# Altium footprint library Indutor.PcbLib: 2 footprints
Each footprint in its own frame and in the unit in brackets; x right, y up, seen from the top. Pads: shape width x height; smd on the part's side, far side on the other; paste and mask are expansions set on the pad; w line width, h text height; cw(c..) or ccw(c..) is an arc to the next point about the centre after c.
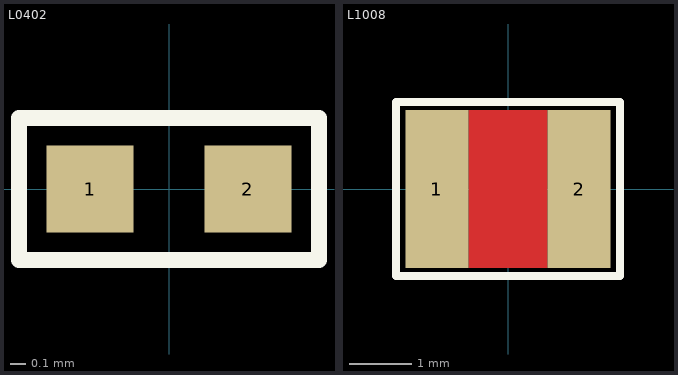
[diagram p0: the footprints below, top view; thin cyan lines are the x and y axes]

## L0402 [mil]
pads (2):
  rect 22x22 smd: 1(-20,0) 2(20,0)
Top Overlay:
  lines w4: -38,-18 38,-18 38,18 -38,18 -38,-18
3D body "User Library-Chip Inductor.step": height 19.68, standoff 0, extent -20,-11.62 19.37,12

## L1008 [mil]
pads (2):
  rect 40x100 smd: 1(-45,0) 2(45,0)
Top Layer:
  pour cut-out: -25,50 -25,-50 25,-50 25,50
Top Overlay:
  lines w5: -70.87,-55.12 70.87,-55.12 70.87,55.12 -70.87,55.12 -70.87,-55.12
3D body "IND-1008HT.step": height 44.53, standoff -0.39, extent -52.95,-45.86 52.95,45.87